# EAGLE library part LCD_2MM_M16 (library MAÑE)
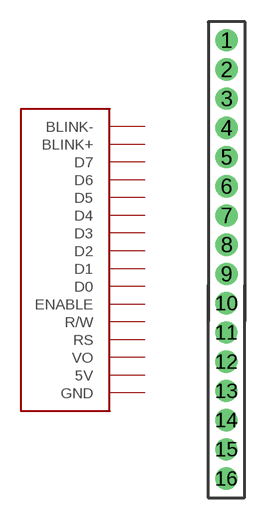
[diagram p4: symbol with the pads of M16_2MM; footprint M16_2MM]

Designator prefix LCD

## LCD_2MM_M16  [M16_2MM]
1  GND
2  5V
3  VO
4  RS
5  R/W
6  ENABLE
7  D0
8  D1
9  D2
10  D3
11  D4
12  D5
13  D6
14  D7
15  BLINK+
16  BLINK-

## Footprint M16_2MM (pad centres in mm)
drill 0.8 pad 1.524: 1 0.43,18.095; 2 0.43,16.095; 3 0.43,14.095; 4 0.43,12.095; 5 0.43,10.095; 6 0.43,8.095; 7 0.43,6.095; 8 0.43,4.095; 9 0.43,2.095; 10 0.41,0.08; 11 0.41,-1.92; 12 0.41,-3.92; 13 0.41,-5.92; 14 0.41,-7.92; 15 0.41,-9.92; 16 0.41,-11.92